# Altium footprint library 2019-09-27_02-12-17.PcbLib: 3 footprints
Each footprint in its own frame and in the unit in brackets; x right, y up, seen from the top. Pads: shape width x height; smd on the part's side, far side on the other; paste and mask are expansions set on the pad; w line width, h text height; cw(c..) or ccw(c..) is an arc to the next point about the centre after c.
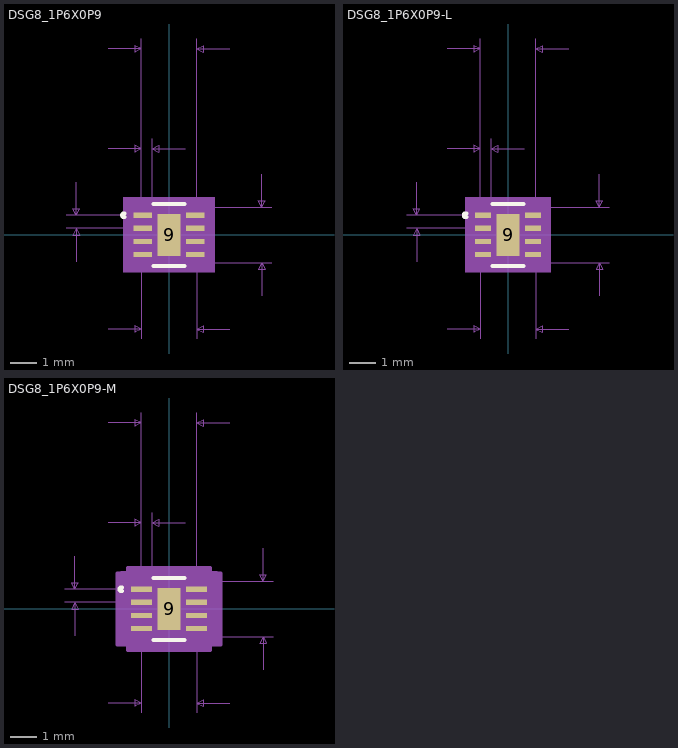
[diagram p0: the footprints below, top view; thin cyan lines are the x and y axes]

## DSG8_1P6X0P9 [mil]
pads (9):
  rect 28x8 smd paste+0 mask+0: 1(-39.5,29.53) 2(-39.5,9.84) 3(-39.5,-9.84) 4(-39.5,-29.53) 5(39.5,-29.53) 6(39.5,-9.84) 7(39.5,9.84) 8(39.5,29.53)
  rect 35x63 smd paste-31 mask-31: 9(0,0)
Top Overlay:
  lines w6: -66.6,26.62 cw(c-67.34,29.53) -66.6,32.43 ; -23.68,-46.5 23.68,-46.5 ; -23.68,46.5 23.68,46.5
Top Paste:
  region: -3.94,28.55 -14.55,28.55 -14.55,19.44 -9.5,19.44 -3.94,25
  region: -9.5,11.56 -14.55,11.56 -14.55,-11.56 -9.5,-11.56 -3.94,-6 -3.94,6
  region: -9.5,-19.44 -14.55,-19.44 -14.55,-28.55 -3.94,-28.55 -3.94,-25
  region: 14.55,28.55 3.94,28.55 3.94,25 9.5,19.44 14.55,19.44
  region: 14.55,11.56 9.5,11.56 3.94,6 3.94,-6 9.5,-11.56 14.55,-11.56
  region: 14.55,-19.44 9.5,-19.44 3.94,-25 3.94,-28.55 14.55,-28.55
Top Solder:
  region: -20,23.37 -20,34 20,34 20,23.37
  region: -20,-7.63 -20,7.63 20,7.63 20,-7.63
  region: -20,-34 -20,-23.37 20,-23.37 20,-34
  region: -20,-34 -20,34 -7.87,34 -7.87,-34
  region: 7.87,-34 7.87,34 20,34 20,-34
Mechanical 5:
  region: 68.5,-56.5 -68.5,-56.5 -68.5,56.5 68.5,56.5
Mechanical 7:
  lines w1: -154.5,9.84 -39.5,9.84 ; -154.5,29.53 -39.5,29.53 ; -139.5,-40.16 -139.5,9.84 ; -139.5,79.53 -139.5,29.53 ; -91.5,-141.5 -41.5,-141.5 ; -91.5,129.53 -41.5,129.53 ; -91.5,279.53 -41.5,279.53 ; -41.5,-156.5 -41.5,-41.5 ; -41.5,144.53 -41.5,29.53 -41.5,294.53 ; -25.5,29.53 -25.5,144.53 ; 24.5,129.53 -25.5,129.53 ; 41.5,-156.5 41.5,-41.5 154.5,-41.5 ; 41.5,29.53 41.5,294.53 ; 41.5,41.5 154.5,41.5 ; 91.5,-141.5 41.5,-141.5 ; 91.5,279.53 41.5,279.53 ; 139.5,-91.5 139.5,-41.5 ; 139.5,91.5 139.5,41.5 ; -139.5,9.84 -144.5,-0.16 -134.5,-0.16 -139.5,9.84 ; -139.5,29.53 -144.5,39.53 -134.5,39.53 -139.5,29.53 ; -41.5,-141.5 -51.5,-136.5 -51.5,-146.5 -41.5,-141.5 ; -41.5,129.53 -51.5,134.53 -51.5,124.53 -41.5,129.53 ; -41.5,279.53 -51.5,284.53 -51.5,274.53 -41.5,279.53 ; -25.5,129.53 -15.5,134.53 -15.5,124.53 -25.5,129.53 ; 41.5,-141.5 51.5,-136.5 51.5,-146.5 41.5,-141.5 ; 41.5,279.53 51.5,284.53 51.5,274.53 41.5,279.53 ; 139.5,-41.5 134.5,-51.5 144.5,-51.5 139.5,-41.5 ; 139.5,41.5 134.5,51.5 144.5,51.5 139.5,41.5
  text "Default Padstyle: RX28Y8D0T" at -337.5,-411.5 h50
  text "Heat Tab Padstyle: RX35Y63D0T" at -362.5,-471.5 h50
  text "Via Padstyle: EX20Y20D10P" at -312.5,-531.5 h50
  text "Alt 1 Padstyle: OX60Y90D30P" at -337.5,-591.5 h50
  text "Alt 2 Padstyle: OX90Y60D30P" at -337.5,-651.5 h50
  text "0.083in/2.108mm" at -93.75,299.53 h25
  text "0.016in/0.406mm" at -127.25,149.53 h25
  text "0.02in/0.5mm" at -309.5,7.18 h25
  text "0.083in/2.108mm" at 159.5,-12.5 h25
  text "0.083in/2.108mm" at -93.75,-186.5 h25
Mechanical 13:
  circle w6: c-25.5,29.53 r3
  lines w0: -12,41.5 ccw(c0,41.5) 12,41.5
  lines w1: -41.5,-41.5 41.5,-41.5 41.5,41.5 -41.5,41.5 -41.5,-41.5
Mechanical 15:
  region: -51.5,-43.53 -63.5,-43.53 -63.5,43.53 -51.5,43.53 -51.5,51.5 51.5,51.5 51.5,43.53 63.5,43.53 63.5,-43.53 51.5,-43.53 51.5,-51.5 -51.5,-51.5
  lines w6: -63.5,-43.53 -63.5,43.53 -51.5,43.53 -51.5,51.5 51.5,51.5 51.5,43.53 63.5,43.53 63.5,-43.53 51.5,-43.53 51.5,-51.5 -51.5,-51.5 -51.5,-43.53 -63.5,-43.53
Mechanical 16:
  circle w5: c0,-15.5 r7.5
  circle w5: c0,15.5 r7.5
3D body: height 10, standoff 0, extent 0,0 10,10

## DSG8_1P6X0P9-L [mil]
pads (9):
  rect 24x8 smd paste+0 mask+0: 1(-37.5,29.53) 2(-37.5,9.84) 3(-37.5,-9.84) 4(-37.5,-29.53) 5(37.5,-29.53) 6(37.5,-9.84) 7(37.5,9.84) 8(37.5,29.53)
  rect 35x63 smd paste-31 mask-31: 9(0,0)
Top Overlay:
  lines w6: -62.6,26.62 cw(c-63.34,29.53) -62.6,32.43 ; -23.68,-46.5 23.68,-46.5 ; -23.68,46.5 23.68,46.5
Top Paste:
  region: -3.94,28.55 -14.55,28.55 -14.55,19.44 -9.5,19.44 -3.94,25
  region: -9.5,11.56 -14.55,11.56 -14.55,-11.56 -9.5,-11.56 -3.94,-6 -3.94,6
  region: -9.5,-19.44 -14.55,-19.44 -14.55,-28.55 -3.94,-28.55 -3.94,-25
  region: 14.55,28.55 3.94,28.55 3.94,25 9.5,19.44 14.55,19.44
  region: 14.55,11.56 9.5,11.56 3.94,6 3.94,-6 9.5,-11.56 14.55,-11.56
  region: 14.55,-19.44 9.5,-19.44 3.94,-25 3.94,-28.55 14.55,-28.55
Top Solder:
  region: -20,23.37 -20,34 20,34 20,23.37
  region: -20,-7.63 -20,7.63 20,7.63 20,-7.63
  region: -20,-34 -20,-23.37 20,-23.37 20,-34
  region: -20,-34 -20,34 -7.87,34 -7.87,-34
  region: 7.87,-34 7.87,34 20,34 20,-34
Mechanical 5:
  region: 64.5,-56.5 -64.5,-56.5 -64.5,56.5 64.5,56.5
Mechanical 7:
  lines w1: -152.5,9.84 -37.5,9.84 ; -152.5,29.53 -37.5,29.53 ; -137.5,-40.16 -137.5,9.84 ; -137.5,79.53 -137.5,29.53 ; -91.5,-141.5 -41.5,-141.5 ; -91.5,129.53 -41.5,129.53 ; -91.5,279.53 -41.5,279.53 ; -41.5,-156.5 -41.5,-41.5 ; -41.5,144.53 -41.5,29.53 -41.5,294.53 ; -25.5,29.53 -25.5,144.53 ; 24.5,129.53 -25.5,129.53 ; 41.5,-156.5 41.5,-41.5 152.5,-41.5 ; 41.5,29.53 41.5,294.53 ; 41.5,41.5 152.5,41.5 ; 91.5,-141.5 41.5,-141.5 ; 91.5,279.53 41.5,279.53 ; 137.5,-91.5 137.5,-41.5 ; 137.5,91.5 137.5,41.5 ; -137.5,9.84 -142.5,-0.16 -132.5,-0.16 -137.5,9.84 ; -137.5,29.53 -142.5,39.53 -132.5,39.53 -137.5,29.53 ; -41.5,-141.5 -51.5,-136.5 -51.5,-146.5 -41.5,-141.5 ; -41.5,129.53 -51.5,134.53 -51.5,124.53 -41.5,129.53 ; -41.5,279.53 -51.5,284.53 -51.5,274.53 -41.5,279.53 ; -25.5,129.53 -15.5,134.53 -15.5,124.53 -25.5,129.53 ; 41.5,-141.5 51.5,-136.5 51.5,-146.5 41.5,-141.5 ; 41.5,279.53 51.5,284.53 51.5,274.53 41.5,279.53 ; 137.5,-41.5 132.5,-51.5 142.5,-51.5 137.5,-41.5 ; 137.5,41.5 132.5,51.5 142.5,51.5 137.5,41.5
  text "Default Padstyle: RX24Y8D0T" at -337.5,-411.5 h50
  text "Heat Tab Padstyle: RX35Y63D0T" at -362.5,-471.5 h50
  text "Via Padstyle: EX20Y20D10P" at -312.5,-531.5 h50
  text "Alt 1 Padstyle: OX60Y90D30P" at -337.5,-591.5 h50
  text "Alt 2 Padstyle: OX90Y60D30P" at -337.5,-651.5 h50
  text "0.083in/2.108mm" at -93.75,299.53 h25
  text "0.016in/0.406mm" at -127.25,149.53 h25
  text "0.02in/0.5mm" at -307.5,7.18 h25
  text "0.083in/2.108mm" at 157.5,-12.5 h25
  text "0.083in/2.108mm" at -93.75,-186.5 h25
Mechanical 13:
  circle w6: c-25.5,29.53 r3
  lines w0: -12,41.5 ccw(c0,41.5) 12,41.5
  lines w1: -41.5,-41.5 41.5,-41.5 41.5,41.5 -41.5,41.5 -41.5,-41.5
Mechanical 15:
  region: -45.5,-37.53 -53.5,-37.53 -53.5,37.53 -45.5,37.53 -45.5,45.5 45.5,45.5 45.5,37.53 53.5,37.53 53.5,-37.53 45.5,-37.53 45.5,-45.5 -45.5,-45.5
  lines w6: -53.5,-37.53 -53.5,37.53 -45.5,37.53 -45.5,45.5 45.5,45.5 45.5,37.53 53.5,37.53 53.5,-37.53 45.5,-37.53 45.5,-45.5 -45.5,-45.5 -45.5,-37.53 -53.5,-37.53
Mechanical 16:
  circle w5: c0,-15.5 r7.5
  circle w5: c0,15.5 r7.5
3D body: height 10, standoff 0, extent 0,0 10,10

## DSG8_1P6X0P9-M [mil]
pads (9):
  rect 32x8 smd paste+0 mask+0: 1(-41.5,29.53) 2(-41.5,9.84) 3(-41.5,-9.84) 4(-41.5,-29.53) 5(41.5,-29.53) 6(41.5,-9.84) 7(41.5,9.84) 8(41.5,29.53)
  rect 35x63 smd paste-31 mask-31: 9(0,0)
Top Overlay:
  lines w6: -70.6,26.62 cw(c-71.34,29.53) -70.6,32.43 ; -23.68,-46.5 23.68,-46.5 ; -23.68,46.5 23.68,46.5
Top Paste:
  region: -3.94,28.55 -14.55,28.55 -14.55,19.44 -9.5,19.44 -3.94,25
  region: -9.5,11.56 -14.55,11.56 -14.55,-11.56 -9.5,-11.56 -3.94,-6 -3.94,6
  region: -9.5,-19.44 -14.55,-19.44 -14.55,-28.55 -3.94,-28.55 -3.94,-25
  region: 14.55,28.55 3.94,28.55 3.94,25 9.5,19.44 14.55,19.44
  region: 14.55,11.56 9.5,11.56 3.94,6 3.94,-6 9.5,-11.56 14.55,-11.56
  region: 14.55,-19.44 9.5,-19.44 3.94,-25 3.94,-28.55 14.55,-28.55
Top Solder:
  region: -20,23.37 -20,34 20,34 20,23.37
  region: -20,-7.63 -20,7.63 20,7.63 20,-7.63
  region: -20,-34 -20,-23.37 20,-23.37 20,-34
  region: -20,-34 -20,34 -7.87,34 -7.87,-34
  region: 7.87,-34 7.87,34 20,34 20,-34
Mechanical 5:
  region: 72.5,-56.5 -72.5,-56.5 -72.5,56.5 72.5,56.5
Mechanical 7:
  lines w1: -156.5,9.84 -41.5,9.84 ; -156.5,29.53 -41.5,29.53 ; -141.5,-40.16 -141.5,9.84 ; -141.5,79.53 -141.5,29.53 ; -91.5,-141.5 -41.5,-141.5 ; -91.5,129.53 -41.5,129.53 ; -91.5,279.53 -41.5,279.53 ; -41.5,-156.5 -41.5,-41.5 ; -41.5,144.53 -41.5,29.53 ; -41.5,294.53 -41.5,29.53 ; -25.5,29.53 -25.5,144.53 ; 24.5,129.53 -25.5,129.53 ; 41.5,-156.5 41.5,-41.5 156.5,-41.5 ; 41.5,29.53 41.5,294.53 ; 41.5,41.5 156.5,41.5 ; 91.5,-141.5 41.5,-141.5 ; 91.5,279.53 41.5,279.53 ; 141.5,-91.5 141.5,-41.5 ; 141.5,91.5 141.5,41.5 ; -141.5,9.84 -146.5,-0.16 -136.5,-0.16 -141.5,9.84 ; -141.5,29.53 -146.5,39.53 -136.5,39.53 -141.5,29.53 ; -41.5,-141.5 -51.5,-136.5 -51.5,-146.5 -41.5,-141.5 ; -41.5,129.53 -51.5,134.53 -51.5,124.53 -41.5,129.53 ; -41.5,279.53 -51.5,284.53 -51.5,274.53 -41.5,279.53 ; -25.5,129.53 -15.5,134.53 -15.5,124.53 -25.5,129.53 ; 41.5,-141.5 51.5,-136.5 51.5,-146.5 41.5,-141.5 ; 41.5,279.53 51.5,284.53 51.5,274.53 41.5,279.53 ; 141.5,-41.5 136.5,-51.5 146.5,-51.5 141.5,-41.5 ; 141.5,41.5 136.5,51.5 146.5,51.5 141.5,41.5
  text "Default Padstyle: RX32Y8D0T" at -337.5,-411.5 h50
  text "Heat Tab Padstyle: RX35Y63D0T" at -362.5,-471.5 h50
  text "Via Padstyle: EX20Y20D10P" at -312.5,-531.5 h50
  text "Alt 1 Padstyle: OX60Y90D30P" at -337.5,-591.5 h50
  text "Alt 2 Padstyle: OX90Y60D30P" at -337.5,-651.5 h50
  text "0.083in/2.108mm" at -93.75,299.53 h25
  text "0.016in/0.406mm" at -127.25,149.53 h25
  text "0.02in/0.5mm" at -311.5,7.18 h25
  text "0.083in/2.108mm" at 161.5,-12.5 h25
  text "0.083in/2.108mm" at -93.75,-186.5 h25
Mechanical 13:
  circle w6: c-25.5,29.53 r3
  lines w0: -12,41.5 ccw(c0,41.5) 12,41.5
  lines w1: -41.5,-41.5 41.5,-41.5 41.5,41.5 -41.5,41.5 -41.5,-41.5
Mechanical 15:
  region: -61.5,-53.53 -77.5,-53.53 -77.5,53.53 -61.5,53.53 -61.5,61.5 61.5,61.5 61.5,53.53 77.5,53.53 77.5,-53.53 61.5,-53.53 61.5,-61.5 -61.5,-61.5
  lines w6: -77.5,-53.53 -77.5,53.53 -61.5,53.53 -61.5,61.5 61.5,61.5 61.5,53.53 77.5,53.53 77.5,-53.53 61.5,-53.53 61.5,-61.5 -61.5,-61.5 -61.5,-53.53 -77.5,-53.53
Mechanical 16:
  circle w5: c0,-15.5 r7.5
  circle w5: c0,15.5 r7.5
3D body: height 10, standoff 0, extent 0,0 10,10